# EAGLE library part 53048_06 (library Molex)
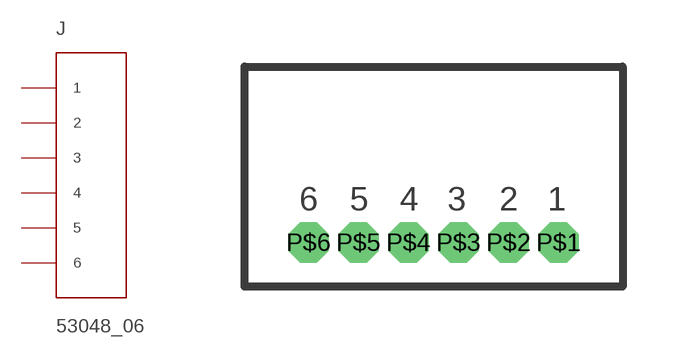
[diagram p4: symbol with the pads of 53048_06; footprint 53048_06]

Designator prefix J

## 53048_06  [53048_06]
P$1  1
P$2  2
P$3  3
P$4  4
P$5  5
P$6  6

## Footprint 53048_06 (pad centres in mm)
drill 0.5 octagon: P$1 0,0; P$2 -1.25,0; P$3 -2.5,0; P$4 -3.75,0; P$5 -5,0; P$6 -6.25,0